# Altium schematic symbol library SWITCH_PCB.SchLib: 1 symbol
Pins are listed as number, name and electrical type; pins without a type are passive.

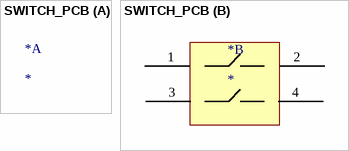
[diagram p0: symbol SWITCH_PCB]

## SWITCH_PCB
designator *
footprint SWITCH_PCB
part B pins: 1 P1, 2 P1, 3, 4